# Altium footprint library PowerIC.PcbLib: 15 footprints
Each footprint in its own frame and in the unit in brackets; x right, y up, seen from the top. Pads: shape width x height; smd on the part's side, far side on the other; paste and mask are expansions set on the pad; w line width, h text height; cw(c..) or ccw(c..) is an arc to the next point about the centre after c.
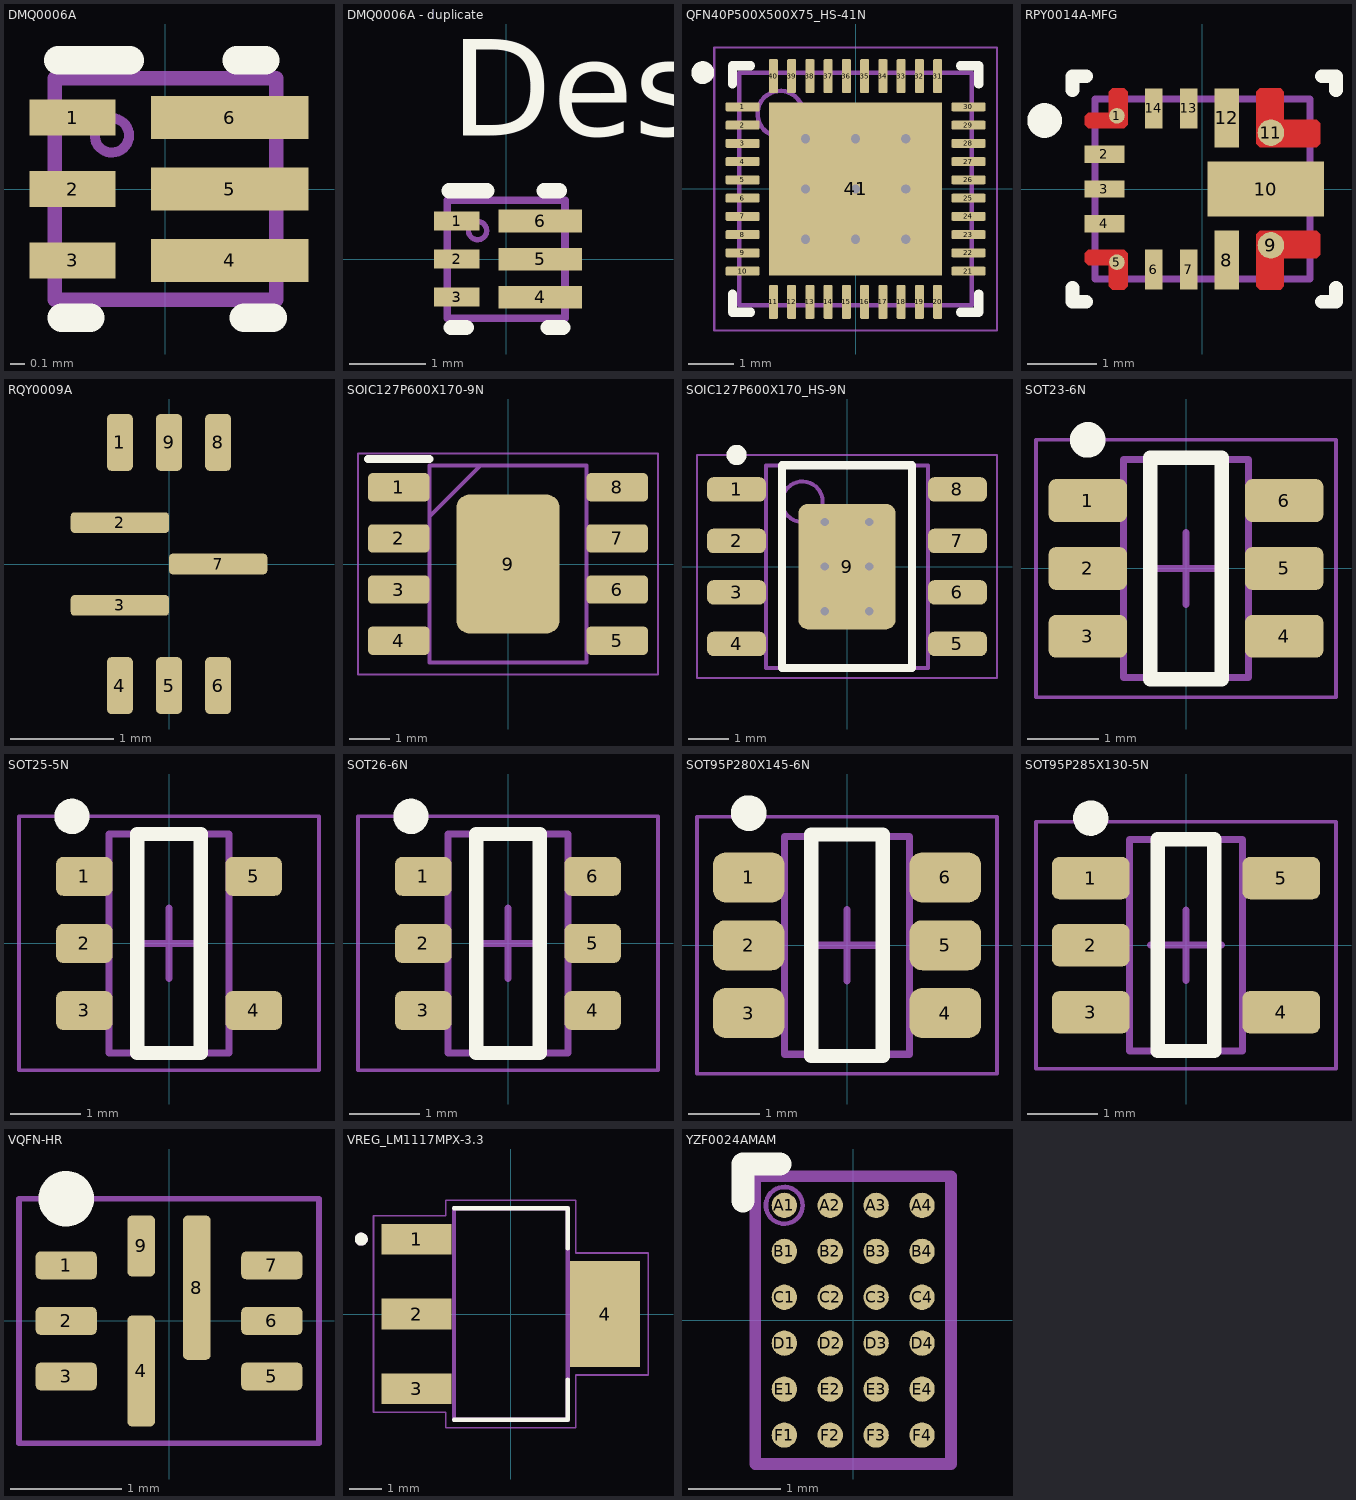
[diagram p0: the footprints below, top view; thin cyan lines are the x and y axes]

## DMQ0006A [mm]
pads (6):
  rect 0.6x0.25 smd paste+0 mask+0.051: 1(-0.65,0.5) 2(-0.65,0) 3(-0.65,-0.5)
  rect 1.1x0.3 smd paste-0.537 mask-0.051: 4(0.45,-0.5) 5(0.45,0) 6(0.45,0.5)
Top Overlay:
  lines w0.2: -0.75,0.9 -0.25,0.9 ; -0.725,-0.9 -0.525,-0.9 ; 0.5,0.9 0.7,0.9 ; 0.55,-0.9 0.75,-0.9
Top Paste:
  region: 0.101,0.44 0.1,0.45 0.1,0.55 0.101,0.56 0.104,0.569 0.108,0.578 0.115,0.585 0.122,0.592 0.131,0.596 0.14,0.599 0.15,0.6 0.9,0.6 0.91,0.599 0.919,0.596 0.928,0.592 0.935,0.585 0.942,0.578 0.946,0.569 0.949,0.56 0.95,0.55 0.95,0.45 0.949,0.44 0.946,0.431 0.942,0.422 0.935,0.415 0.928,0.408 0.919,0.404 0.91,0.401 0.9,0.4 0.15,0.4 0.14,0.401 0.131,0.404 0.122,0.408 0.115,0.415 0.108,0.422 0.104,0.431
  region: 0.101,-0.06 0.1,-0.05 0.1,0.05 0.101,0.06 0.104,0.069 0.108,0.078 0.115,0.085 0.122,0.092 0.131,0.096 0.14,0.099 0.15,0.1 0.9,0.1 0.91,0.099 0.919,0.096 0.928,0.092 0.935,0.085 0.942,0.078 0.946,0.069 0.949,0.06 0.95,0.05 0.95,-0.05 0.949,-0.06 0.946,-0.069 0.942,-0.078 0.935,-0.085 0.928,-0.092 0.919,-0.096 0.91,-0.099 0.9,-0.1 0.15,-0.1 0.14,-0.099 0.131,-0.096 0.122,-0.092 0.115,-0.085 0.108,-0.078 0.104,-0.069
  region: 0.101,-0.56 0.1,-0.55 0.1,-0.45 0.101,-0.44 0.104,-0.431 0.108,-0.422 0.115,-0.415 0.122,-0.408 0.131,-0.404 0.14,-0.401 0.15,-0.4 0.9,-0.4 0.91,-0.401 0.919,-0.404 0.928,-0.408 0.935,-0.415 0.942,-0.422 0.946,-0.431 0.949,-0.44 0.95,-0.45 0.95,-0.55 0.949,-0.56 0.946,-0.569 0.942,-0.578 0.935,-0.585 0.928,-0.592 0.919,-0.596 0.91,-0.599 0.9,-0.6 0.15,-0.6 0.14,-0.599 0.131,-0.596 0.122,-0.592 0.115,-0.585 0.108,-0.578 0.104,-0.569
Mechanical 13:
  circle w0.07: c-0.375,0.375 r0.12
  lines w0.1: -0.775,-0.775 0.775,-0.775 0.775,0.775 -0.775,0.775 -0.775,-0.775
3D body "DMQ0006A.stp": height 1, standoff 0, extent -0.75,-0.75 0.75,0.75
3D body: height 0.25, standoff 0, extent 0,0 0.254,0.254

## DMQ0006A - duplicate [mm]
pads (6):
  rect 0.6x0.25 smd paste+0 mask+0.051: 1(-0.65,0.5) 2(-0.65,0) 3(-0.65,-0.5)
  rect 1.1x0.3 smd paste-0.537 mask-0.051: 4(0.45,-0.5) 5(0.45,0) 6(0.45,0.5)
Top Overlay:
  lines w0.2: -0.75,0.9 -0.25,0.9 ; -0.725,-0.9 -0.525,-0.9 ; 0.5,0.9 0.7,0.9 ; 0.55,-0.9 0.75,-0.9
  text "Designator82" at -0.737,1.626 h1.27
Top Paste:
  region: 0.101,0.44 0.1,0.45 0.1,0.55 0.101,0.56 0.104,0.569 0.108,0.578 0.115,0.585 0.122,0.592 0.131,0.596 0.14,0.599 0.15,0.6 0.9,0.6 0.91,0.599 0.919,0.596 0.928,0.592 0.935,0.585 0.942,0.578 0.946,0.569 0.949,0.56 0.95,0.55 0.95,0.45 0.949,0.44 0.946,0.431 0.942,0.422 0.935,0.415 0.928,0.408 0.919,0.404 0.91,0.401 0.9,0.4 0.15,0.4 0.14,0.401 0.131,0.404 0.122,0.408 0.115,0.415 0.108,0.422 0.104,0.431
  region: 0.101,-0.06 0.1,-0.05 0.1,0.05 0.101,0.06 0.104,0.069 0.108,0.078 0.115,0.085 0.122,0.092 0.131,0.096 0.14,0.099 0.15,0.1 0.9,0.1 0.91,0.099 0.919,0.096 0.928,0.092 0.935,0.085 0.942,0.078 0.946,0.069 0.949,0.06 0.95,0.05 0.95,-0.05 0.949,-0.06 0.946,-0.069 0.942,-0.078 0.935,-0.085 0.928,-0.092 0.919,-0.096 0.91,-0.099 0.9,-0.1 0.15,-0.1 0.14,-0.099 0.131,-0.096 0.122,-0.092 0.115,-0.085 0.108,-0.078 0.104,-0.069
  region: 0.101,-0.56 0.1,-0.55 0.1,-0.45 0.101,-0.44 0.104,-0.431 0.108,-0.422 0.115,-0.415 0.122,-0.408 0.131,-0.404 0.14,-0.401 0.15,-0.4 0.9,-0.4 0.91,-0.401 0.919,-0.404 0.928,-0.408 0.935,-0.415 0.942,-0.422 0.946,-0.431 0.949,-0.44 0.95,-0.45 0.95,-0.55 0.949,-0.56 0.946,-0.569 0.942,-0.578 0.935,-0.585 0.928,-0.592 0.919,-0.596 0.91,-0.599 0.9,-0.6 0.15,-0.6 0.14,-0.599 0.131,-0.596 0.122,-0.592 0.115,-0.585 0.108,-0.578 0.104,-0.569
Mechanical 13:
  circle w0.07: c-0.375,0.375 r0.12
  lines w0.1: -0.775,-0.775 0.775,-0.775 0.775,0.775 -0.775,0.775 -0.775,-0.775
  text ".Designator" at -0.675,-0.985 h1.27
3D body: height 0.25, standoff 0, extent 0,0 0.254,0.254

## QFN40P500X500X75_HS-41N [mm] "QFN, 40-Leads, Body 5,00x5,00mm, Pitch 0,40mm, Thermal Pad 3,80x3,80mm, IPC Medium Density"
height 0.75
pads (41):
  rrect35% 0.75x0.2 smd: 1(-2.475,1.8) 2(-2.475,1.4) 3(-2.475,1) 4(-2.475,0.6) 5(-2.475,0.2) 6(-2.475,-0.2) 7(-2.475,-0.6) 8(-2.475,-1) 9(-2.475,-1.4) 10(-2.475,-1.8) 21(2.475,-1.8) 22(2.475,-1.4) 23(2.475,-1) 24(2.475,-0.6) 25(2.475,-0.2) 26(2.475,0.2) 27(2.475,0.6) 28(2.475,1) 29(2.475,1.4) 30(2.475,1.8)
  rrect35% 0.2x0.75 smd: 11(-1.8,-2.475) 12(-1.4,-2.475) 13(-1,-2.475) 14(-0.6,-2.475) 15(-0.2,-2.475) 16(0.2,-2.475) 17(0.6,-2.475) 18(1,-2.475) 19(1.4,-2.475) 20(1.8,-2.475) 31(1.8,2.475) 32(1.4,2.475) 33(1,2.475) 34(0.6,2.475) 35(0.2,2.475) 36(-0.2,2.475) 37(-0.6,2.475) 38(-1,2.475) 39(-1.4,2.475) 40(-1.8,2.475)
  rect 3.8x3.8 smd: 41(0,0)
via -1.1,1.1 diameter 0.5 hole 0.2
via 0,1.1 diameter 0.5 hole 0.2
via 1.1,1.1 diameter 0.5 hole 0.2
via -1.1,0 diameter 0.5 hole 0.2
via 0,0 diameter 0.5 hole 0.2
via 1.1,0 diameter 0.5 hole 0.2
via -1.1,-1.1 diameter 0.5 hole 0.2
via 0,-1.1 diameter 0.5 hole 0.2
via 1.1,-1.1 diameter 0.5 hole 0.2
Top Overlay:
  circle w0.25: c-3.35,2.55 r0.125
  lines w0.2: -2.7,-2.3 -2.7,-2.7 -2.3,-2.7 ; -2.7,2.3 -2.7,2.7 -2.3,2.7 ; 2.3,-2.7 2.7,-2.7 2.7,-2.3 ; 2.3,2.7 2.7,2.7 2.7,2.3
Mechanical 13:
  circle w0.1: c-1.65,1.65 r0.5
  lines w0.1: -2.55,-2.55 -2.55,2.55 2.55,2.55 2.55,-2.55 -2.55,-2.55
Mechanical 15:
  lines w0.05: -3.1,-3.1 -3.1,3.1 3.1,3.1 3.1,-3.1 -3.1,-3.1
  lines w0.1: -0.5,0 0.5,0 ; 0,-0.5 0,0.5
3D body "QFN40P500X500X75_HS-41N.step": height 0.75, standoff 0, extent -2.6,-2.6 2.6,2.6

## RPY0014A-MFG [mm]
pads (14):
  round 0.226 smd paste-0.1 mask-0.102: 1(-1.233,1.055) 5(-1.233,-1.055)
  rect 0.575x0.25 smd paste+0 mask-0.279: 2(-1.413,0.5) 3(-1.413,0) 4(-1.413,-0.5)
  rect 0.25x0.575 smd paste+0 mask-0.279: 6(-0.7,-1.163) 7(-0.2,-1.163) 13(-0.2,1.163) 14(-0.7,1.163)
  rect 0.35x0.85 smd paste+0 mask-0.406: 8(0.35,-1.025) 12(0.35,1.025)
  round 0.382 smd paste-0.179 mask-0.178: 9(0.987,-0.812) 11(0.987,0.812)
  rect 1.675x0.8 smd paste-0.825 mask-0.826: 10(0.913,0)
Top Layer:
  region: 0.775,1.4 0.775,0.65 0.825,0.6 1.65,0.6 1.7,0.65 1.7,0.95 1.65,1 1.175,1 1.175,1.4 1.125,1.45 0.825,1.45
  region: 0.775,-1.4 0.775,-0.65 0.825,-0.6 1.65,-0.6 1.7,-0.65 1.7,-0.95 1.65,-1 1.175,-1 1.175,-1.4 1.125,-1.45 0.825,-1.45
  region: -1.7,-0.925 -1.7,-1.05 -1.65,-1.1 -1.35,-1.1 -1.35,-1.4 -1.3,-1.45 -1.125,-1.45 -1.075,-1.4 -1.075,-0.925 -1.125,-0.875 -1.65,-0.875
  region: -1.7,0.925 -1.7,1.05 -1.65,1.1 -1.35,1.1 -1.35,1.4 -1.3,1.45 -1.125,1.45 -1.075,1.4 -1.075,0.925 -1.125,0.875 -1.65,0.875
Top Overlay:
  circle w0.25: c-2.275,0.988 r0.125
  lines w0.2: -1.875,-1.425 -1.875,-1.625 -1.675,-1.625 ; -1.875,1.425 -1.875,1.625 -1.675,1.625 ; 1.725,-1.625 1.925,-1.625 1.925,-1.425 ; 1.725,1.625 1.925,1.625 1.925,1.425
Top Paste:
  region: 0.213,0.35 1.65,0.35 1.7,0.3 1.7,0.175 1.65,0.125 1.312,0.125 1.312,-0.125 1.65,-0.125 1.7,-0.175 1.7,-0.3 1.65,-0.35 0.213,-0.35 0.163,-0.3 0.163,0.3
  region: 0.775,1.4 0.775,0.65 0.825,0.6 1.65,0.6 1.7,0.65 1.7,0.9 1.65,0.95 1.125,0.95 1.125,1.4 1.075,1.45 0.825,1.45
  region: 0.775,-1.4 0.775,-0.65 0.825,-0.6 1.65,-0.6 1.7,-0.65 1.7,-0.9 1.65,-0.95 1.125,-0.95 1.125,-1.4 1.075,-1.45 0.825,-1.45
  region: -1.7,-0.925 -1.7,-1.05 -1.65,-1.1 -1.3,-1.1 -1.3,-1.4 -1.25,-1.45 -1.125,-1.45 -1.075,-1.4 -1.075,-0.925 -1.125,-0.875 -1.65,-0.875
  region: -1.7,0.925 -1.7,1.05 -1.65,1.1 -1.3,1.1 -1.3,1.4 -1.25,1.45 -1.125,1.45 -1.075,1.4 -1.075,0.925 -1.125,0.875 -1.65,0.875
Top Solder:
  region: 0.725,-1.4 0.725,-0.65 0.825,-0.55 1.65,-0.55 1.75,-0.65 1.75,-0.95 1.65,-1.05 1.225,-1.05 1.225,-1.4 1.125,-1.5 0.825,-1.5
  region: 0.725,1.4 0.725,0.65 0.825,0.55 1.65,0.55 1.75,0.65 1.75,0.95 1.65,1.05 1.225,1.05 1.225,1.4 1.125,1.5 0.825,1.5
  region: -1.75,0.925 -1.75,1.05 -1.65,1.15 -1.4,1.15 -1.4,1.4 -1.3,1.5 -1.125,1.5 -1.025,1.4 -1.025,0.925 -1.125,0.825 -1.65,0.825
  region: -1.75,-0.925 -1.75,-1.05 -1.65,-1.15 -1.4,-1.15 -1.4,-1.4 -1.3,-1.5 -1.125,-1.5 -1.025,-1.4 -1.025,-0.925 -1.125,-0.825 -1.65,-0.825
  region: 0.575,-0.65 0.575,-1.4 0.475,-1.5 0.225,-1.5 0.125,-1.4 0.125,-0.65 0.225,-0.55 0.475,-0.55
  region: 0.475,1.5 0.575,1.4 0.575,0.65 0.475,0.55 0.225,0.55 0.125,0.65 0.125,1.4 0.225,1.5
  region: -0.125,-0.825 -0.025,-0.925 -0.025,-1.4 -0.125,-1.5 -0.275,-1.5 -0.375,-1.4 -0.375,-0.925 -0.275,-0.825
  region: -0.275,0.825 -0.375,0.925 -0.375,1.4 -0.275,1.5 -0.125,1.5 -0.025,1.4 -0.025,0.925 -0.125,0.825
  region: -0.875,1.4 -0.775,1.5 -0.625,1.5 -0.525,1.4 -0.525,0.925 -0.625,0.825 -0.775,0.825 -0.875,0.925
  region: -0.525,-0.925 -0.525,-1.4 -0.625,-1.5 -0.775,-1.5 -0.875,-1.4 -0.875,-0.925 -0.775,-0.825 -0.625,-0.825
  region: -1.75,-0.575 -1.75,-0.425 -1.65,-0.325 -1.175,-0.325 -1.075,-0.425 -1.075,-0.575 -1.175,-0.675 -1.65,-0.675
  region: -1.65,0.175 -1.175,0.175 -1.075,0.075 -1.075,-0.075 -1.175,-0.175 -1.65,-0.175 -1.75,-0.075 -1.75,0.075
  region: -1.175,0.675 -1.075,0.575 -1.075,0.425 -1.175,0.325 -1.65,0.325 -1.75,0.425 -1.75,0.575 -1.65,0.675
  region: 0.175,0.35 1.65,0.35 1.7,0.3 1.7,0.175 1.65,0.125 1.35,0.125 1.35,-0.125 1.65,-0.125 1.7,-0.175 1.7,-0.3 1.65,-0.35 0.175,-0.35 0.125,-0.3 0.125,0.3
Mechanical 13:
  lines w0.1: -1.55,-1.3 -1.55,1.3 1.55,1.3 1.55,-1.3 -1.55,-1.3
3D body: height 0.25, standoff 0, extent 0,0 0.254,0.254
3D body "RPY0014A.stp": height 1, standoff 0, extent -1.5,-1.25 1.5,1.25

## RQY0009A [mm] "VQFN-HR"
pads (9):
  rrect35% 0.25x0.55 smd: 1(-0.475,1.175) 4(-0.475,-1.175) 5(0,-1.175) 6(0.475,-1.175) 8(0.475,1.175) 9(0,1.175)
  rrect35% 0.95x0.2 smd: 2(-0.475,0.4) 3(-0.475,-0.4) 7(0.475,0)
3D body "RQY0009A.stp": height 1, standoff 0, extent -0.75,-1.25 0.75,1.25

## SOIC127P600X170-9N [mm]
pads (9):
  rrect30% 1.525x0.7 smd: 1(-2.712,1.905) 2(-2.712,0.635) 3(-2.712,-0.635) 4(-2.712,-1.905) 5(2.712,-1.905) 6(2.712,-0.635) 7(2.712,0.635) 8(2.712,1.905)
  rrect25% 2.56x3.45 smd: 9(0,0)
Top Overlay:
  lines w0.2: -3.475,2.605 -1.95,2.605
Mechanical 13:
  lines w0.1: -1.95,1.18 -0.68,2.45 ; -1.95,-2.45 -1.95,2.45 1.95,2.45 1.95,-2.45 -1.95,-2.45
Mechanical 15:
  lines w0.05: -3.725,-2.75 -3.725,2.75 3.725,2.75 3.725,-2.75 -3.725,-2.75
3D body "MP2307DN-LF-Z.stp": height 1.7, standoff 0, extent -3,-2.45 3,2.45

## SOIC127P600X170_HS-9N [mm] "SOIC, 8-Leads, Body 4,90x3,90mm, Pitch 1,27mm, Thermal Pad 3,10x2,40mm, IPC Medium Density"
height 1.7
pads (9):
  rrect50% 1.45x0.6 smd: 1(-2.725,1.905) 2(-2.725,0.635) 3(-2.725,-0.635) 4(-2.725,-1.905) 5(2.725,-1.905) 6(2.725,-0.635) 7(2.725,0.635) 8(2.725,1.905)
  rrect20% 2.4x3.1 smd: 9(0,0)
via 0.55,-1.1 diameter 0.5 hole 0.2
via -0.55,-1.1 diameter 0.5 hole 0.2
via 0.55,0 diameter 0.5 hole 0.2
via -0.55,0 diameter 0.5 hole 0.2
via 0.55,1.1 diameter 0.5 hole 0.2
via -0.55,1.1 diameter 0.5 hole 0.2
Top Overlay:
  circle w0.25: c-2.725,2.755 r0.125
  lines w0.2: -1.6,-2.5 1.6,-2.5 1.6,2.5 -1.6,2.5 -1.6,-2.5
Top Assembly:
  circle w0.1: c-1.1,1.6 r0.5
  lines w0.1: -2,-2.5 2,-2.5 2,2.5 -2,2.5 -2,-2.5
Top Courtyard:
  lines w0.05: -3.7,-2.75 3.7,-2.75 3.7,2.75 -3.7,2.75 -3.7,-2.75
  lines w0.1: -0.5,0 0.5,0 ; 0,-0.5 0,0.5
3D body "SOIC127P600X170_HS-9N.step": height 1.7, standoff 0, extent -3,-2.5 3,2.5

## SOT23-6N [mm] "SOT23, 6-Leads, Body 2,90x2,80mm, Pitch 0,95mm, IPC Medium Density"
height 1.45
pads (6):
  rrect35% 1.1x0.6 smd: 1(-1.375,0.95) 2(-1.375,0) 3(-1.375,-0.95) 4(1.375,-0.95) 5(1.375,0) 6(1.375,0.95)
Top Overlay:
  circle w0.25: c-1.375,1.8 r0.125
  lines w0.2: -0.5,-1.55 -0.5,1.55 0.5,1.55 0.5,-1.55 -0.5,-1.55
Top Assembly:
  lines w0.1: -0.875,-1.525 0.875,-1.525 0.875,1.525 -0.875,1.525 -0.875,-1.525
Top Courtyard:
  lines w0.05: -2.1,-1.8 2.1,-1.8 2.1,1.8 -2.1,1.8 -2.1,-1.8
  lines w0.1: -0.5,0 0.5,0 ; 0,-0.5 0,0.5
3D body "SOT95P280X145-6N.step": height 1.45, standoff 0, extent -1.5,-1.525 1.5,1.525

## SOT25-5N [mm] "SOT23, 5-Leads, Body 3,00x2,85mm, Pitch 0,95mm, IPC Medium Density"
height 1.23
pads (5):
  rrect35% 0.8x0.55 smd: 1(-1.2,0.95) 2(-1.2,0) 3(-1.2,-0.95) 4(1.2,-0.95) 5(1.2,0.95)
Top Overlay:
  circle w0.25: c-1.375,1.8 r0.125
  lines w0.2: -0.45,-1.55 0.45,-1.55 0.45,1.55 -0.45,1.55 -0.45,-1.55
Top Assembly:
  lines w0.1: -0.85,-1.55 -0.85,1.55 0.85,1.55 0.85,-1.55 -0.85,-1.55
Top Courtyard:
  lines w0.05: -2.125,-1.8 -2.125,1.8 2.125,1.8 2.125,-1.8 -2.125,-1.8
  lines w0.1: -0.5,0 0.5,0 ; 0,-0.5 0,0.5
3D body "SOT95P285X123-5N.step": height 1.23, standoff 0, extent -1.5,-1.55 1.5,1.55

## SOT26-6N [mm] "SOT23, 6-Leads, Body 3,00x2,85mm, Pitch 0,95mm, IPC Medium Density"
height 1.85
pads (6):
  rrect35% 0.8x0.55 smd: 1(-1.2,0.95) 2(-1.2,0) 3(-1.2,-0.95) 4(1.2,-0.95) 5(1.2,0) 6(1.2,0.95)
Top Overlay:
  circle w0.25: c-1.375,1.8 r0.125
  lines w0.2: -0.45,-1.55 0.45,-1.55 0.45,1.55 -0.45,1.55 -0.45,-1.55
Mechanical 13:
  lines w0.1: -0.85,-1.55 -0.85,1.55 0.85,1.55 0.85,-1.55 -0.85,-1.55
Mechanical 15:
  lines w0.05: -2.125,-1.8 -2.125,1.8 2.125,1.8 2.125,-1.8 -2.125,-1.8
  lines w0.1: -0.5,0 0.5,0 ; 0,-0.5 0,0.5
3D body "SOT95P285X185-6N.step": height 1.85, standoff 0, extent -1.5,-1.55 1.5,1.55

## SOT95P280X145-6N [mm] "SOT23, 6-Leads, Body 2,90x2,80mm, Pitch 0,95mm, IPC Medium Density"
height 1.45
pads (6):
  rrect50% 1x0.7 smd: 1(-1.375,0.95) 2(-1.375,0) 3(-1.375,-0.95) 4(1.375,-0.95) 5(1.375,0) 6(1.375,0.95)
Top Overlay:
  circle w0.25: c-1.375,1.85 r0.125
  lines w0.2: -0.5,-1.55 -0.5,1.55 0.5,1.55 0.5,-1.55 -0.5,-1.55
Mechanical 13:
  lines w0.1: -0.875,-1.525 0.875,-1.525 0.875,1.525 -0.875,1.525 -0.875,-1.525
Mechanical 15:
  lines w0.05: -2.1,-1.8 2.1,-1.8 2.1,1.8 -2.1,1.8 -2.1,-1.8
  lines w0.1: -0.5,0 0.5,0 ; 0,-0.5 0,0.5
3D body "SOT95P280X145-6N.step": height 1.45, standoff 0, extent -1.5,-1.525 1.5,1.525

## SOT95P285X130-5N [mm] "SOT23, 5-Leads, Body 2,95x2,85mm, Pitch 0,95mm, IPC Medium Density"
height 1.3
pads (5):
  rrect35% 1.1x0.6 smd: 1(-1.35,0.95) 2(-1.35,0) 3(-1.35,-0.95) 4(1.35,-0.95) 5(1.35,0.95)
Top Overlay:
  circle w0.25: c-1.35,1.8 r0.125
  lines w0.2: -0.4,-1.5 0.4,-1.5 0.4,1.5 -0.4,1.5 -0.4,-1.5
Mechanical 13:
  lines w0.1: -0.8,-1.5 -0.8,1.5 0.8,1.5 0.8,-1.5 -0.8,-1.5
Mechanical 15:
  lines w0.05: -2.125,-1.75 -2.125,1.75 2.125,1.75 2.125,-1.75 -2.125,-1.75
  lines w0.1: -0.5,0 0.5,0 ; 0,-0.5 0,0.5
3D body "SOT95P285X130-5N.step": height 1.3, standoff 0, extent -1.5,-1.5 1.5,1.5

## VQFN-HR [mm] "Plastic quad flatpack"
pads (9):
  rrect35% 0.55x0.25 smd: 1(-0.925,0.5) 2(-0.925,0) 3(-0.925,-0.5) 5(0.925,-0.5) 6(0.925,0) 7(0.925,0.5)
  rrect35% 0.25x1 smd: 4(-0.25,-0.45)
  rrect35% 0.25x1.3 smd: 8(0.25,0.3)
  rrect35% 0.25x0.55 smd: 9(-0.25,0.675)
Top Overlay:
  circle w0.25: c-0.925,1.1 r0.125
Top Courtyard:
  lines w0.05: -1.35,-1.1 1.35,-1.1 1.35,1.1 -1.35,1.1 -1.35,-1.1
3D body "RQF0009A.stp": height 1, standoff 0, extent -1,-0.75 1,0.75

## VREG_LM1117MPX-3.3 [mm]
pads (4):
  rect 2.15x0.95 smd: 1(-2.9,2.3) 2(-2.9,0) 3(-2.9,-2.3)
  rect 2.15x3.25 smd: 4(2.9,0)
Top Overlay:
  circle w0.2: c-4.6,2.3 r0.1
  lines w0.127: -1.75,-3.25 1.75,-3.25 1.75,-2.01 ; -1.75,3.25 1.75,3.25 1.75,2.01
Mechanical 13:
  circle w0.2: c-4.6,2.3 r0.1
  lines w0.127: -1.75,-3.25 -1.75,3.25 1.75,3.25 1.75,-3.25 -1.75,-3.25
Mechanical 15:
  lines w0.05: -4.225,-3.025 -4.225,3.025 -2,3.025 -2,3.5 2,3.5 2,1.875 4.225,1.875 4.225,-1.875 2,-1.875 2,-3.5 -2,-3.5 -2,-3.025 -4.225,-3.025

## YZF0024AMAM [mm]
pads (24):
  round 0.275 smd paste-0.138 mask+0.051: A1(-0.75,1.25) A2(-0.25,1.25) A3(0.25,1.25) A4(0.75,1.25) B1(-0.75,0.75) B2(-0.25,0.75) B3(0.25,0.75) B4(0.75,0.75) C1(-0.75,0.25) C2(-0.25,0.25) C3(0.25,0.25) C4(0.75,0.25) D1(-0.75,-0.25) D2(-0.25,-0.25) D3(0.25,-0.25) D4(0.75,-0.25) E1(-0.75,-0.75) E2(-0.25,-0.75) E3(0.25,-0.75) E4(0.75,-0.75) F1(-0.75,-1.25) F2(-0.25,-1.25) F3(0.25,-1.25) F4(0.75,-1.25)
Top Overlay:
  lines w0.254: -1.2,1.3 -1.2,1.7 -0.8,1.7
Top Paste:
  drawing of 144 lines, arcs and shapes, not listed
Mechanical 13:
  circle w0.05: c-0.75,1.25 r0.2
  lines w0.127: -1.065,-1.565 -1.065,1.565 1.065,1.565 1.065,-1.565 -1.065,-1.565
3D body: height 1, standoff 0, extent -1.065,-1.565 1.065,1.565